# Altium footprint library Diode.PcbLib: 13 footprints
Each footprint in its own frame and in the unit in brackets; x right, y up, seen from the top. Pads: shape width x height; smd on the part's side, far side on the other; paste and mask are expansions set on the pad; w line width, h text height; cw(c..) or ccw(c..) is an arc to the next point about the centre after c.
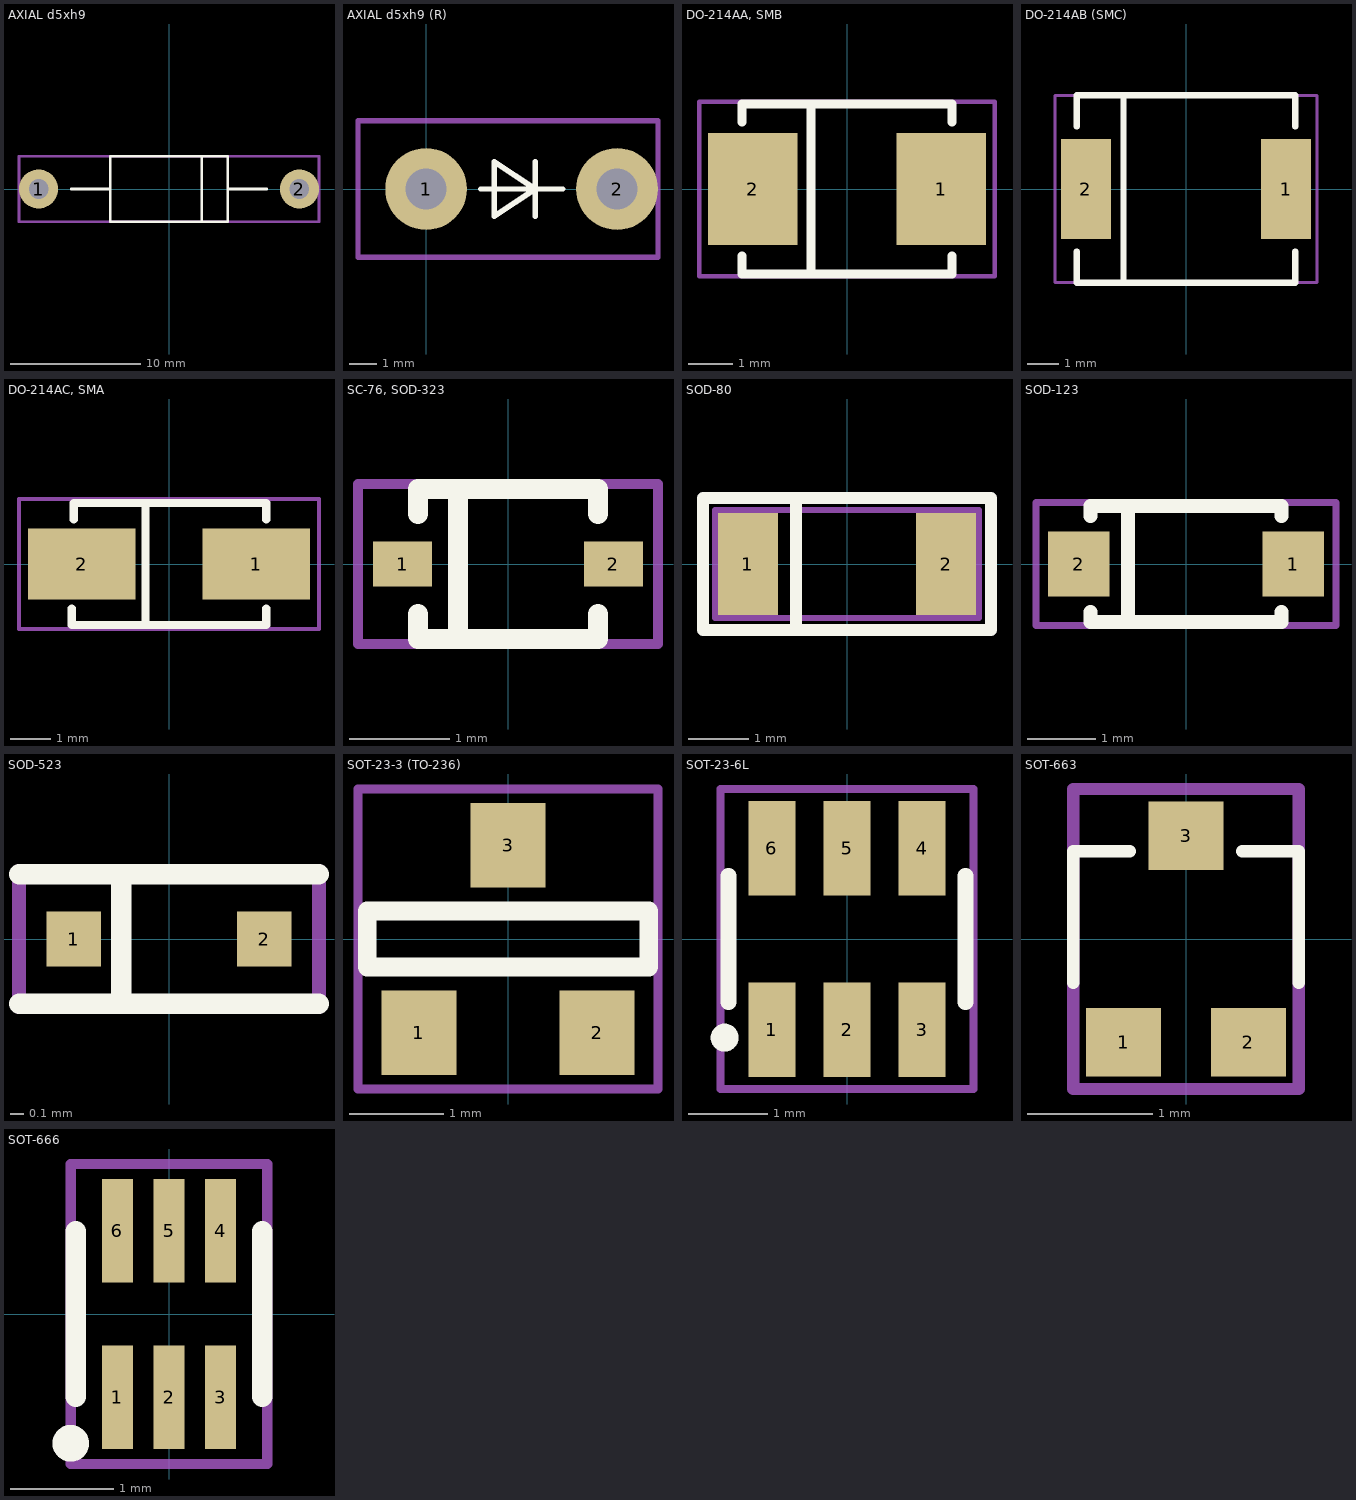
[diagram p0: the footprints below, top view; thin cyan lines are the x and y axes]

## AXIAL d5xh9 [mm]
pads (2):
  round 3 hole 1.5: 1(-10,0) 2(10,0)
Top Overlay:
  lines w0.2: -7.5,0 -4.5,0 ; 2.5,-2.5 2.5,2.5 ; 4.5,0 7.5,0 ; -4.5,-2.5 4.5,-2.5 4.5,2.5 -4.5,2.5 -4.5,-2.5
Border:
  lines w0.2: -11.5,-2.5 11.5,-2.5 11.5,2.5 -11.5,2.5 -11.5,-2.5
3D body "Диод d5xh9 лежачий.stp": height 5.01, standoff -3.5, extent -10.65,-2.51 10.65,2.51

## AXIAL d5xh9 (R) [mm]
pads (2):
  round 3 hole 1.5: 1(0,0) 2(7,0)
Top Overlay:
  lines w0.2: 2,0 5,0 ; 4,-1 4,1 ; 2.5,-1 4,0 2.5,1 2.5,-1
Border:
  lines w0.2: -2.5,-2.5 -2.5,2.5 8.5,2.5 8.5,-2.5 -2.5,-2.5
3D body "Диод d5xh9 стоячий.stp": height 15.65, standoff -4, extent -2.507,-2.51 7.649,2.51

## DO-214AA, SMB [mm]
pads (2):
  rect 2x2.5 smd: 1(2.1,0) 2(-2.1,0)
Top Overlay:
  lines w0.2: -2.35,-1.5 -2.35,-1.9 2.35,-1.9 2.35,-1.5 ; -2.35,1.5 -2.35,1.9 2.35,1.9 2.35,1.5 ; -0.8,-1.9 -0.8,1.9
Border:
  lines w0.1: -3.3,-1.95 -3.3,1.95 3.3,1.95 3.3,-1.95 -3.3,-1.95
3D body "User Library-DIOM5539X24.STEP": height 2.45, standoff 0.03, extent -2.75,-1.95 2.75,1.95

## DO-214AB (SMC) [mm]
pads (2):
  rect 1.6x3.2 smd: 1(3.205,0) 2(-3.205,0)
Top Overlay:
  lines w0.2: -3.5,-2 -3.5,-3 3.5,-3 3.5,-2 ; -3.5,2 -3.5,3 3.5,3 3.5,2 ; -2,-3 -2,3
Border:
  lines w0.1: -4.2,-3 -4.2,3 4.2,3 4.2,-3 -4.2,-3
3D body "User Library-DIOM8261X24.STEP": height 2.4, standoff 0.03, extent -4.065,-3.05 4.065,3.05

## DO-214AC, SMA [mm]
pads (2):
  rect 2.65x1.75 smd: 1(2.15,0) 2(-2.15,0)
Top Overlay:
  lines w0.2: -2.4,-1.1 -2.4,-1.5 2.4,-1.5 2.4,-1.1 ; -2.35,1.1 -2.35,1.5 2.4,1.5 2.4,1.1 ; -0.575,-1.5 -0.575,1.5
Border:
  lines w0.1: -3.7,-1.6 3.7,-1.6 3.7,1.6 -3.7,1.6 -3.7,-1.6
3D body "User Library-DIOM5528X26.STEP": height 2.6, standoff 0.03, extent -2.75,-1.4 2.75,1.4

## SC-76, SOD-323 [mm]
pads (2):
  rect 0.59x0.45 smd: 1(-1.055,0) 2(1.055,0)
Top Overlay:
  lines w0.2: -0.9,-0.5 -0.9,-0.75 0.9,-0.75 0.9,-0.5 ; -0.9,0.5 -0.9,0.75 0.9,0.75 0.9,0.5 ; -0.5,-0.7 -0.5,0.7
Border:
  lines w0.1: -1.5,-0.8 -1.5,0.8 1.5,0.8 1.5,-0.8 -1.5,-0.8
3D body "User Library-SOD2513X11.STEP": height 1.1, standoff 0, extent -1.35,-0.625 1.35,0.625

## SOD-80 [mm]
pads (2):
  rect 1x1.7 smd: 1(-1.65,0) 2(1.65,0)
Top Overlay:
  lines w0.2: -0.85,-1.1 -0.85,1.1 ; -2.4,-1.1 2.4,-1.1 2.4,1.1 -2.4,1.1 -2.4,-1.1
Border:
  lines w0.1: -2.2,-0.9 2.2,-0.9 2.2,0.9 -2.2,0.9 -2.2,-0.9
3D body "User Library-MiniMelf-2.STEP": height 1.6, standoff 0, extent -1.88,-0.8 1.82,0.8

## SOD-123 [mm]
pads (2):
  rect 0.9x0.95 smd: 1(1.575,0) 2(-1.575,0)
Top Overlay:
  lines w0.2: -1.4,-0.7 -1.4,-0.85 1.4,-0.85 1.4,-0.7 ; -1.4,0.7 -1.4,0.85 1.4,0.85 1.4,0.7 ; -0.85,-0.85 -0.85,0.85
Border:
  lines w0.1: -2.2,-0.9 2.2,-0.9 2.2,0.9 -2.2,0.9 -2.2,-0.9
3D body "User Library-SOD123-1.STEP": height 1.18, standoff 0, extent -1.95,-0.9 1.95,0.9

## SOD-523 [mm]
pads (2):
  rect 0.4x0.4 smd: 1(-0.7,0) 2(0.7,0)
Top Overlay:
  lines w0.15: -1.1,-0.475 1.1,-0.475 ; -1.1,0.475 1.1,0.475 ; -0.35,-0.475 -0.35,0.475
Border:
  lines w0.1: -1.1,-0.5 1.1,-0.5 1.1,0.5 -1.1,0.5 -1.1,-0.5
3D body "User Library-SOD-523F.STEP": height 0.7, standoff 0, extent -0.8,-0.399 0.8,0.399

## SOT-23-3 (TO-236) [mm]
pads (3):
  rect 0.8x0.9 smd: 1(-0.95,-1) 2(0.95,-1) 3(0,1)
Top Overlay:
  lines w0.2: -1.5,-0.3 -1.5,0.3 1.5,0.3 1.5,-0.3 -1.5,-0.3
Border:
  lines w0.1: -1.5,0.3 1.5,0.3 ; -1.6,-1.6 -1.6,1.6 1.6,1.6 1.6,-1.6 -1.6,-1.6
3D body "irlml6402trpbf.stp": height 1.05, standoff 0, extent -1.46,-1.156 1.46,1.206

## SOT-23-6L [mm]
pads (6):
  rect 0.6x1.2 smd: 1(-0.95,-1.15) 2(0,-1.15) 3(0.95,-1.15) 4(0.95,1.15) 5(0,1.15) 6(-0.95,1.15)
Top Overlay:
  circle w0.254: c-1.55,-1.25 r0.05
  lines w0.2: -1.5,-0.8 -1.5,0.8 ; 1.5,-0.8 1.5,0.8
Border:
  lines w0.1: -1.6,-1.9 -1.6,1.9 1.6,1.9 1.6,-1.9 -1.6,-1.9
3D body "User Library-sot-23-6-5.STEP": height 1.25, standoff 0, extent -1.45,-1.419 1.45,1.419

## SOT-663 [mm]
pads (3):
  rect 0.6x0.55 smd: 1(-0.5,-0.825) 2(0.5,-0.825) 3(0,0.825)
Top Overlay:
  lines w0.1: -0.9,-0.35 -0.9,0.7 -0.45,0.7 ; 0.45,0.7 0.9,0.7 0.9,-0.35
Border:
  lines w0.1: -0.9,-1.2 -0.9,1.2 0.9,1.2 0.9,-1.2 -0.9,-1.2
3D body "SOT-663.stp": height 0.6, standoff 0, extent -0.85,-0.85 0.85,0.85

## SOT-666 [mm]
pads (6):
  rect 0.3x1 smd: 1(-0.5,-0.805) 2(0,-0.805) 3(0.5,-0.805) 4(0.5,0.805) 5(0,0.805) 6(-0.5,0.805)
Top Overlay:
  circle w0.254: c-0.95,-1.25 r0.05
  lines w0.2: -0.9,-0.8 -0.9,0.8 ; 0.9,-0.8 0.9,0.8
Border:
  lines w0.1: -0.95,-1.45 -0.95,1.45 0.95,1.45 0.95,-1.45 -0.95,-1.45
3D body "User Library-SOT-666.STEP": height 0.6, standoff 0, extent -0.85,-0.85 0.85,0.85